# Altium integrated library Analog Devices Data Converters Analog-to-Digital Converters.IntLib: 2400 symbols (part 96 of 338)
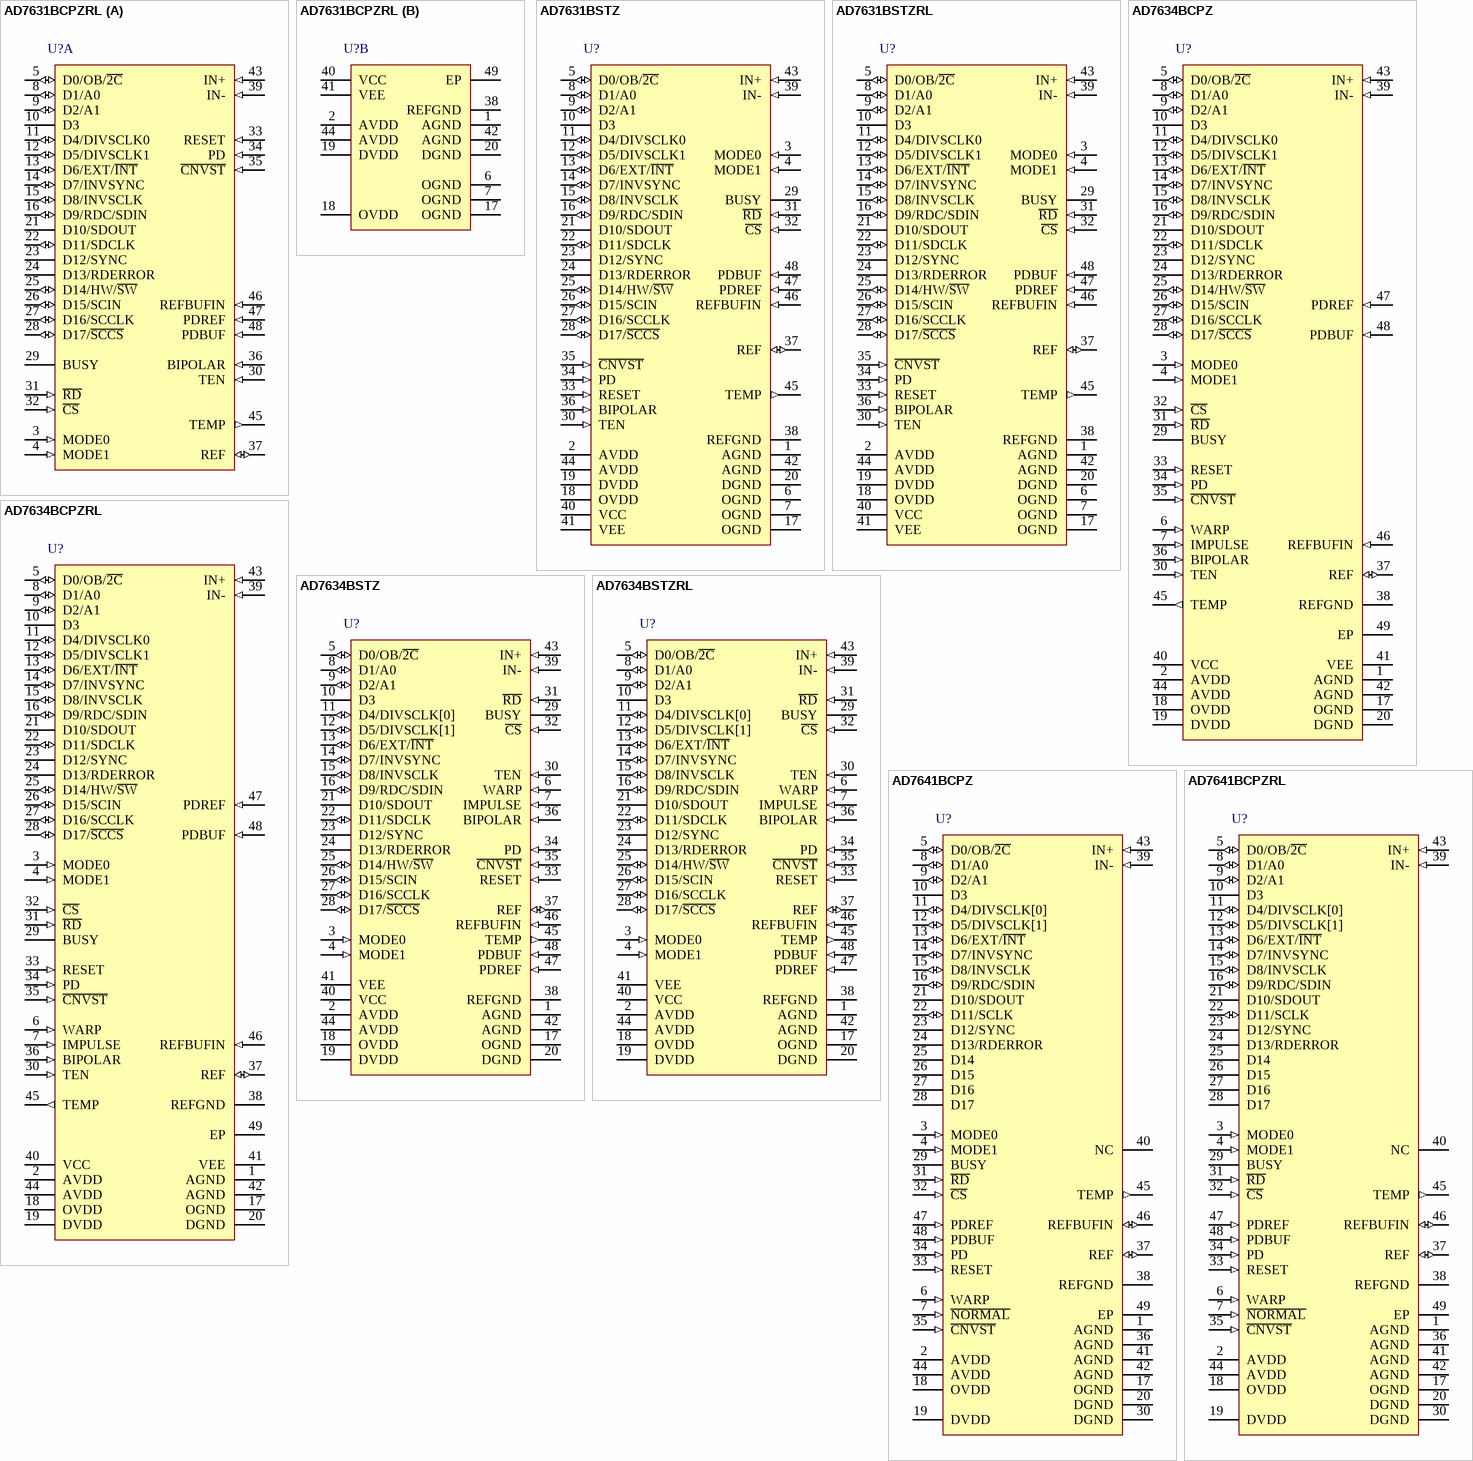
[diagram p310: symbols AD7631BCPZRL to AD7641BCPZRL]

## AD7641BCPZ
designator U?
Single 18-Bit SAR Analog-to-Digital Converter with Byte, Parallel, Serial, SPI Interface, 2MSPS, -40 to +85 degC, CP-48-1, Pb-Free, Tray; Part Number: AD7641; Manufacturer: Analog Devices; Resolution (Bits): 18; Channels: 1; Throughput Rate (SPS): 2M; Interface: Byte, Par, Ser, SPI; DatasheetVersion: Rev.0; PackageVersion: Jan-2005; PackageReference: CP-48-1; PackageDescription: 48-Lead Lead Frame Chip Scale Package [LFCSP_VQ] 7 x 7 mm Body, Very Thin Quad; RoHS: Y; Packing: Tray; Mounting Technology: Surface Mount; Code_JEDEC: MO-220-VKKD-2; ComponentLink1Description: Manufacturer URL; ComponentLink1URL: http://www.analog.com/en/index.html; ComponentLink2Description: Datasheet; ComponentLink2URL: http://www.analog.com/static/imported-files/data_sheets/AD7641.pdf; ComponentLink3Description: Package Specification; ComponentLink3URL: http://www.analog.com/static/imported-files/packages/PKG_PDF/LFCSP(CP)/CP-48/CP_48_1.pdf; ComponentLink4Description: Product URL; ComponentLink4URL: http://www.analog.com/en/analog-to-digital-converters/ad-converters/ad7641/products/product.html
footprint CP-48-1_N (QFN, 48-Leads, Body 7x7mm, Pitch 0.5mm, Thermal Pad 5.1x5.1mm, IPC Medium Density)
footprint CP-48-1_L (QFN, 48-Leads, Body 7x7mm, Pitch 0.5mm, Thermal Pad 5.1x5.1mm, IPC High Density)
footprint CP-48-1_M (QFN, 48-Leads, Body 7x7mm, Pitch 0.5mm, Thermal Pad 5.1x5.1mm, IPC Low Density)
pins: 1 AGND (power) "Analog Power Ground Pin.", 2 AVDD (power) "Input Analog Power Pins. Nominally 2.5 V.", 3 MODE0 (in) "Data Output Interface Mode Selection.", 4 MODE1 (in) "Data Output Interface Mode Selection.", 5 D0/OB/~{2C} (io) "When MODE[1:0] = 0 (18-bit interface mode), this pin is Bit 0 of the parallel port data output bus and the data coding is straight binary. In all other modes, this pin allows the choice of straight binary/twos complement. (See Datasheet)", 6 WARP (in) "Conversion Mode Selection. When WARP = high and N\O\R\M\A\L\ = high, this selects wideband warp mode with slightly improved linearity and THD. When WARP = high and N\O\R\M\A\L\ = low, this selects warp mode. In either mode, (See Datasheet)", 7 ~{NORMAL} (in) "Conversion Mode Selection. When N\O\R\M\A\L\ = low and WARP = low, this input selects normal mode where full accuracy is maintained independent of the minimum conversion rate.", 8 D1/A0 (io) "When MODE[1:0] = 0, this pin is Bit 1 of the parallel port data output bus. In all other modes, this input pin controls the form in which data is output as shown in Table 7.", 9 D2/A1 (io) "When MODE[1:0] = 0, this pin is Bit 2 of the parallel port data output bus. When MODE[1:0] = 1 or 2, this input pin controls the form in which data is output as shown in Table 7.", 10 D3 (hiz) "When MODE[1:0] = 0, 1, or 2, this output is used as Bit 3 of the parallel port data output bus. This pin is always an output, regardless of the interface mode.", 11 D4/DIVSCLK[0] (io) "When MODE[1:0] = 0, 1, or 2, this pin is Bit 4 of the parallel port data output bus. When MODE[1:0] = 3 (serial mode), serial clock division selection. When using serial master read after convert mode (EXT/I\N\T\ = low, (See Datasheet)", 12 D5/DIVSCLK[1] (io) "When MODE[1:0] = 0, 1, or 2, this pin is Bit 5 of the parallel port data output bus. When MODE[1:0] = 3 (serial mode), serial clock division selection. When using serial master read after convert mode (EXT/I\N\T\ = low, (See Datasheet)", 13 D6/EXT/~{INT} (io) "When MODE[1:0] = 0, 1, or 2, this output is used as Bit 6 of the parallel port data output bus. When MODE[1:0] = 3, (serial mode), serial clock source select. This input is used to select the internally generated (master) or (See Datasheet)", 14 D7/INVSYNC (io) "When MODE[1:0] = 0, 1, or 2, this output is used as Bit 7 of the parallel port data output bus. When MODE[1:0] = 3, (serial mode), invert sync select. In serial master mode (EXT/I\N\T\ = low), this input is used to select (See Datasheet)", 15 D8/INVSCLK (io) "When MODE[1:0] = 0, 1, or 2, this output is used as Bit 8 of the parallel port data output bus. When MODE[1:0] = 3, (serial mode), invert SCLK select. In all serial modes, this input is used to invert the SCLK signal.", 16 D9/RDC/SDIN (io) "When MODE[1:0] = 0, 1, or 2, this output is used as bit 9 of the parallel port data output bus. When MODE[1:0] = 3, (serial mode), read during convert. When using serial master mode (EXT/I\N\T\ = low), RDC is used to select (See Datasheet)", 17 OGND (power) "Input/Output Interface Digital Power Ground.", 18 OVDD (power) "Input/Output Interface Digital Power. Nominally at the same supply as the supply of the host interface (2.5 V or 3 V).", 19 DVDD (power) "Digital Power. Nominally at 2.5 V.", 20 DGND (power) "Digital Power Ground.", 21 D10/SDOUT (hiz) "When MODE[1:0] = 0, 1, or 2, this output is used as Bit 10 of the parallel port data output bus. When MODE[1:0] = 3, (serial mode), serial data output. In serial mode, this pin is used as the serial data output synchronized (See Datasheet)", 22 D11/SCLK (io) "When MODE[1:0] = 0, 1, or 2, this output is used as Bit 11 of the parallel port data output bus. When MODE[1:0] = 3, (serial mode), serial clock. In all serial modes, this pin is used as the serial data clock input or (See Datasheet)", 23 D12/SYNC (hiz) "When MODE[1:0] = 0, 1, or 2, this output is used as Bit 12 of the parallel port data output bus. When MODE[1:0] = 3, (serial mode), frame synchronization. In serial master mode (EXT/I\N\T\= low), this output is used as a (See Datasheet)", 24 D13/RDERROR (hiz) "When MODE[1:0] = 0, 1, or 2, this output is used as Bit 13 of the parallel port data output bus. When MODE[1:0] = 3, (serial mode), read error. In serial slave mode (EXT/I\N\T\ = high), this output is used as an incomplete (See Datasheet)", 25 D14 (hiz) "Bit 14 of the parallel port data output bus. This pin is always output, regardless of the interface mode.", 26 D15 (hiz) "Bit 15 of the parallel port data output bus. This pin is always output, regardless of the interface mode.", 27 D16 (hiz) "Bit 16 of the parallel port data output bus. This pin is always output, regardless of the interface mode.", 28 D17 (hiz) "Bit 17 of the parallel port data output bus. This pin is always output, regardless of the interface mode.", 29 BUSY (hiz) "Busy Output. Transitions high when a conversion is started and remains high until the conversion is complete and the data is latched into the on-chip shift register. The falling edge of BUSY can be used as a data-ready clock (See Datasheet)", 30 DGND (power) "Digital Power Ground.", 31 ~{RD} (in) "Read Data. When C\S\ and R\D\ are both low, the interface parallel or serial output bus is enabled.", 32 ~{CS} (in) "Chip Select. When C\S\ and R\D\ are both low, the interface parallel or serial output bus is enabled. C\S\ is also used to gate the external clock in slave serial mode.", 33 RESET (in) "Reset Input. When high, resets the AD7641. Current conversion, if any, is aborted. Falling edge of RESET enables the calibration mode indicated by pulsing BUSY high. Refer to the Digital Interface section. If not used, this (See Datasheet)", 34 PD (in) "Power-Down Input. When high, power downs the ADC. Power consumption is reduced and conversions are inhibited after the current one is completed.", 35 ~{CNVST} (in) "Conversion Start. A falling edge on C\N\V\S\T\ puts the internal sample-and-hold into the hold state and initiates a conversion.", 36 AGND (power) "Analog Power Ground Pin.", 37 REF (io) "Reference Output/Input. When PDREF/PDBUF = low, the internal reference and buffer are enabled producing 2.048 V on this pin. When PDREF/PDBUF = high, the internal reference and buffer are disabled allowing an externally (See Datasheet)", 38 REFGND (power) "Reference Input Analog Ground.", 39 IN- (in) "Differential Negative Analog Input.", 40 NC "No Connect.", 41 AGND (power) "Analog Power Ground Pin.", 42 AGND (power) "Analog Power Ground Pin.", 43 IN+ (in) "Differential Positive Analog Input.", 44 AVDD (power) "Input Analog Power Pins. Nominally 2.5 V", 45 TEMP (out) "Temperature Sensor Analog Output.", 46 REFBUFIN (io) "Internal Reference Output/Reference Buffer Input. When PDREF/PDBUF = low, the internal reference and buffer are enabled producing the 1.2 V (typical) band gap output on this pin, which needs external decoupling. The internal (See Datasheet)", 47 PDREF (in) "Internal Reference Power-Down Input. When low, the internal reference is enabled. When high, the internal reference is powered down and an external reference must been used.", 48 PDBUF (in) "Internal Reference Buffer Power-Down Input. When low, the buffer is enabled (must be low when using internal reference). When high, the buffer is powered-down.", 49 EP (power) "Exposed Paddle"